# EAGLE library part 87264-28 (library untitled)
RECEPTACAL
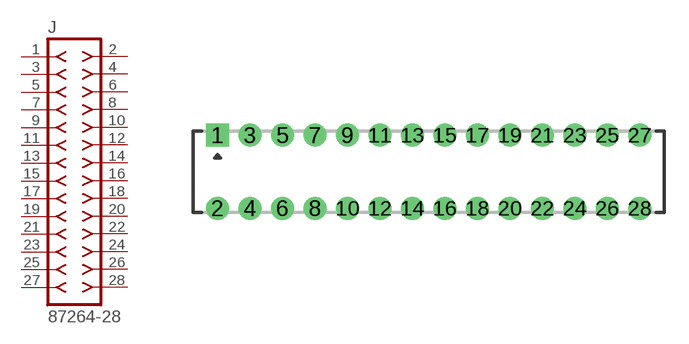
[diagram p215: symbol with the pads of 87264-28; footprint 87264-28]

Designator prefix J

## 87264-28  [87264-28]
1  1  pas
2  2  pas
3  3  pas
4  4  pas
5  5  pas
6  6  pas
7  7  pas
8  8  pas
9  9  pas
10  10  pas
11  11  pas
12  12  pas
13  13  pas
14  14  pas
15  15  pas
16  16  pas
17  17  pas
18  18  pas
19  19  pas
20  20  pas
21  21  pas
22  22  pas
23  23  pas
24  24  pas
25  25  pas
26  26  pas
27  27  pas
28  28  pas

## Footprint 87264-28 (pad centres in mm)
RECEPTACAL Dual Row, Side Entry
drill 0.914 square: 1 -13,2.25
drill 0.914 round: 2 -13,-2.25; 3 -11,2.25; 4 -11,-2.25; 5 -9,2.25; 6 -9,-2.25; 7 -7,2.25; 8 -7,-2.25; 9 -5,2.25; 10 -5,-2.25; 11 -3,2.25; 12 -3,-2.25; 13 -1,2.25; 14 -1,-2.25; 15 1,2.25; 16 1,-2.25; 17 3,2.25; 18 3,-2.25; 19 5,2.25; 20 5,-2.25; 21 7,2.25; 22 7,-2.25; 23 9,2.25; 24 9,-2.25; 25 11,2.25; 26 11,-2.25; 27 13,2.25; 28 13,-2.25